# Altium footprint library Con RF Coaxial.PcbLib: 11 footprints
Each footprint in its own frame and in the unit in brackets; x right, y up, seen from the top. Pads: shape width x height; smd on the part's side, far side on the other; paste and mask are expansions set on the pad; w line width, h text height; cw(c..) or ccw(c..) is an arc to the next point about the centre after c.
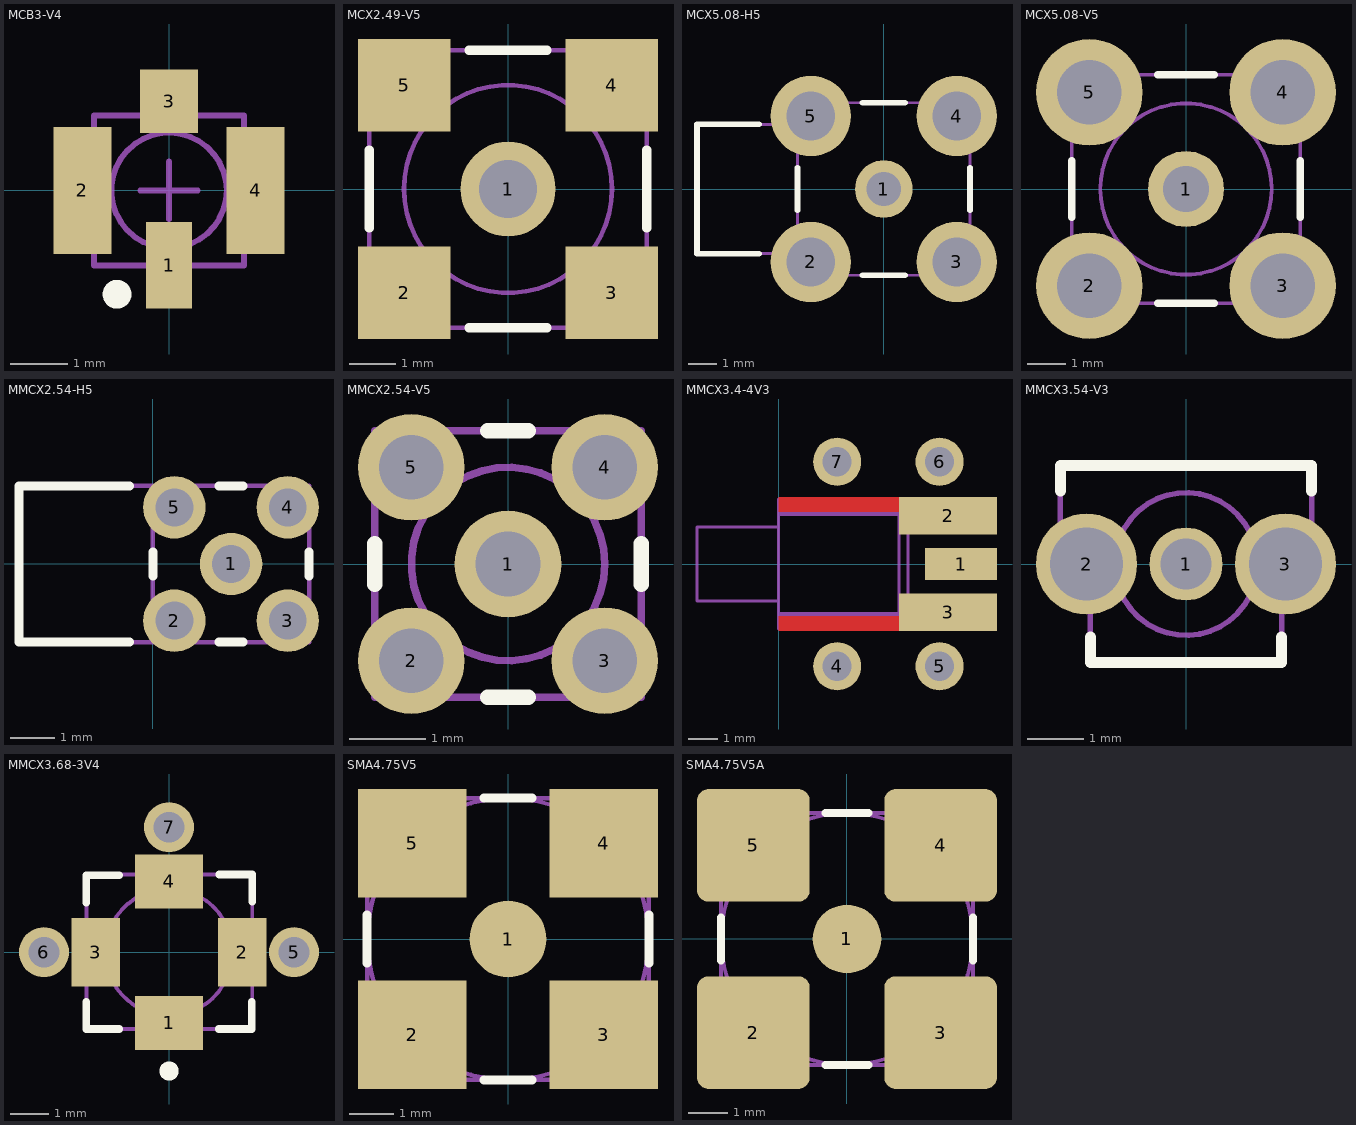
[diagram p0: the footprints below, top view; thin cyan lines are the x and y axes]

## MCB3-V4 [mm] "Connector; RF Coaxial, MCB SM; 4 Position; Vertical, Body 3.1x3.0mm (LxW)"
height 1.3
pads (4):
  rect 0.8x1.5 smd: 1(0,-1.3)
  rect 1x2.2 smd: 2(-1.5,0) 4(1.5,0)
  rect 1x1.1 smd: 3(0,1.55)
Top Overlay:
  circle w0.25: c-0.9,-1.8 r0.125
Mechanical 13:
  circle w0.1: c0,0 r1
  lines w0.1: -1.3,-1.3 1.3,-1.3 1.3,1.3 -1.3,1.3 -1.3,-1.3
Mechanical 15:
  lines w0.1: -0.5,0 0.5,0 ; 0,-0.5 0,0.5
3D body: height 1.3, standoff 0.35, extent -1.008,-1.008 1.008,1.008
3D body: height 0.35, standoff 0, extent -1.299,-1.299 1.299,1.299

## MCX2.49-V5 [mm] "Connector; RF Coaxial, MCX, SM; 5 Position; Vertical"
height 6.35
pads (5):
  round 2.05 hole 1.25: 1(0,0)
  rect 2x2 smd: 2(-2.245,-2.245) 3(2.245,-2.245) 4(2.245,2.245) 5(-2.245,2.245)
Top Overlay:
  lines w0.2: -3,-0.845 -3,0.845 ; -0.845,-3 0.845,-3 ; -0.845,3 0.845,3 ; 3,-0.845 3,0.845
Mechanical 13:
  circle w0.1: c0,0 r2.25
  lines w0.1: -3,-3 3,-3 3,3 -3,3 -3,-3
3D body: height 2.3, standoff 0, extent -2.999,-2.999 2.999,2.999
3D body: height 6.35, standoff 2.3, extent -2.26,-2.26 2.26,2.26

## MCX5.08-H5 [mm] "Connector; RF Coaxial, MCX, Thru-Hole; 5 Position; Right Angle"
height 5.99
pads (5):
  round 2 hole 1.2: 1(0,0)
  round 2.8 hole 1.7: 2(-2.54,-2.54) 3(2.54,-2.54) 4(2.54,2.54) 5(-2.54,2.54)
Top Overlay:
  lines w0.2: -4.34,-2.25 -6.5,-2.25 -6.5,2.25 -4.34,2.25 ; -3,-0.74 -3,0.74 ; -0.74,-3 0.74,-3 ; -0.74,3 0.74,3 ; 3,-0.74 3,0.74
Mechanical 13:
  lines w0.1: -3,-2.25 -6.5,-2.25 -6.5,2.25 -3,2.25 ; -3,-3 -3,3 3,3 3,-3 -3,-3
3D body: height 5.99, standoff 0, extent -2.999,-2.999 2.999,2.999
3D body: height 5.25, standoff 0.76, extent -6.499,-2.249 -2.999,2.242

## MCX5.08-V5 [mm] "Connector; RF Coaxial, MCX, Thru-Hole; 5 Position; Vertical"
height 5.75
pads (5):
  round 2 hole 1.2: 1(0,0)
  round 2.8 hole 1.7: 2(-2.54,-2.54) 3(2.54,-2.54) 4(2.54,2.54) 5(-2.54,2.54)
Top Overlay:
  lines w0.2: -3,-0.74 -3,0.74 ; -0.74,-3 0.74,-3 ; -0.74,3 0.74,3 ; 3,-0.74 3,0.74
Mechanical 13:
  circle w0.1: c0,0 r2.25
  lines w0.1: -3,-3 3,-3 3,3 -3,3 -3,-3
3D body: height 5.75, standoff 1.6, extent -2.26,-2.26 2.26,2.26
3D body: height 1.6, standoff 0, extent -3,-3 3,3

## MMCX2.54-H5 [mm] "Connector; RF Coaxial, MMCX, Thru-Hole; 5 Position; Right Angle"
height 3.8
pads (5):
  round 1.4 hole 0.85: 1(1.75,0) 2(0.48,-1.27) 3(3.02,-1.27) 4(3.02,1.27) 5(0.48,1.27)
Top Overlay:
  lines w0.2: -0.52,-1.75 -3,-1.75 -3,1.75 -0.52,1.75 ; 0,-0.27 0,0.27 ; 1.48,-1.75 2.02,-1.75 ; 1.48,1.75 2.02,1.75 ; 3.5,-0.27 3.5,0.27
Mechanical 13:
  lines w0.1: 0,-1.75 0,1.75 ; -3,-1.75 -3,1.75 3.5,1.75 3.5,-1.75 -3,-1.75
3D body: height 3.81, standoff 0.32, extent -3,-1.747 0,1.747
3D body: height 3.8, standoff 0, extent 0,-1.749 3.499,1.749

## MMCX2.54-V5 [mm] "Connector; RF Coaxial, MMCX, Thru-Hole; 5 Position; Vertical"
height 4.45
pads (5):
  round 1.4 hole 0.85: 1(0,0) 2(-1.27,-1.27) 3(1.27,-1.27) 4(1.27,1.27) 5(-1.27,1.27)
Top Overlay:
  lines w0.2: -1.75,-0.27 -1.75,0.27 ; -0.27,-1.75 0.27,-1.75 ; -0.27,1.75 0.27,1.75 ; 1.75,-0.27 1.75,0.27
Mechanical 13:
  circle w0.1: c0,0 r1.27
  lines w0.1: -1.75,-1.75 1.75,-1.75 1.75,1.75 -1.75,1.75 -1.75,-1.75
3D body: height 4.45, standoff 1.65, extent -1.28,-1.28 1.28,1.28
3D body: height 1.65, standoff 0, extent -1.75,-1.75 1.75,1.75

## MMCX3.4-4V3 [mm] "Connector; RF Coaxial, MMCX, Thru-Hole; 3 Position; Edgecard"
height 7.24
pads (7):
  rect 2.465x1.09 smd: 1(6.258,0)
  rect 3.355x1.295 smd: 2(5.813,1.653) 3(5.813,-1.653)
  round 1.65 hole 1: 4(2.01,-3.505) 5(5.52,-3.505) 6(5.52,3.505) 7(2.01,3.505)
Top Layer:
  rectangle: 0,1.78 7.49,2.3
  rectangle: 0,-2.3 7.49,-1.78
Mechanical 1:
  lines w0.1: 0,-1.78 4.135,-1.78 4.135,1.78 0,1.78 0,-1.78
  text "PCB Edge" at 0.115,-0.794 h0.1
  text "Assign" at 0.5,0.79 h0.5
  text "Keepout" at 0.5,0.136 h0.5
  text "Area to" at 0.5,-0.515 h0.5
  text "Cut-out" at 0.5,-1.209 h0.5
Mechanical 13:
  lines w0.1: 0,-1.7 4.445,-1.7 ; 0,-1.27 -2.794,-1.27 -2.794,1.27 0,1.27 ; 0,1.7 4.445,1.7 ; 0,-2.235 0,2.235 4.445,2.235 4.445,-2.235 0,-2.235
3D body: height 1, standoff -1, extent 0.001,-1.699 4.444,1.699
3D body: height 2.11, standoff 0, extent 0.001,-2.234 4.444,2.234
3D body: height 1.63, standoff -0.9, extent -2.793,-1.269 0.001,1.265

## MMCX3.54-V3 [mm] "Connector; RF Coaxial, MMCX, Thru-Hole; 3 Position; Vertical"
height 7.24
pads (3):
  round 1.3 hole 0.9: 1(0,0)
  round 1.8 hole 1.3: 2(-1.77,0) 3(1.77,0)
Top Overlay:
  lines w0.2: -2.235,1.3 -2.235,1.753 2.235,1.753 2.235,1.3 ; -1.702,-1.3 -1.702,-1.753 1.702,-1.753 1.702,-1.3
Mechanical 13:
  circle w0.1: c0,0 r1.27
  lines w0.1: -2.235,0 -2.235,1.753 2.235,1.753 2.235,0 1.702,0 1.702,-1.753 -1.702,-1.753 -1.702,0 -2.235,0
3D body: height 4.45, standoff 0, extent -2.234,-1.752 2.234,1.752
3D body: height 7.24, standoff 4.45, extent -1.28,-1.28 1.28,1.28

## MMCX3.68-3V4 [mm] "Connector; RF Coaxial, MMCX, SM; 4 Position; Vertical"
height 3.6
pads (7):
  rect 1.78x1.4 smd: 1(0,-1.841) 4(0,1.841)
  rect 1.27x1.78 smd: 2(1.905,0) 3(-1.905,0)
  round 1.3 hole 0.8: 5(3.251,0) 6(-3.251,0) 7(0,3.251)
Top Overlay:
  circle w0.25: c0,-3.092 r0.125
  lines w0.2: -2.15,-1.29 -2.15,-2 -1.29,-2 ; -2.15,1.29 -2.15,2 -1.29,2 ; 1.29,-2 2.15,-2 2.15,-1.29 ; 1.306,2.021 2.166,2.021 2.166,1.311
Mechanical 13:
  circle w0.1: c0,0 r1.651
  lines w0.1: -2.15,-2 -2.15,2.021 2.166,2.021 2.166,-2 -2.15,-2
3D body: height 2.46, standoff 0, extent -2.149,-1.999 2.165,2.02
3D body: height 3.6, standoff 2.46, extent -1.658,-1.658 1.658,1.658

## SMA4.75V5 [mm] "Connector; RF Coaxial, SMA, SM; 5 Position; Vertical"
height 10.3
pads (5):
  round 1.73 smd: 1(0,0)
  rect 2.44x2.44 smd: 2(-2.16,-2.16) 3(2.16,-2.16) 4(2.16,2.16) 5(-2.16,2.16)
Top Overlay:
  lines w0.2: -3.175,-0.54 -3.175,0.54 ; -0.54,-3.175 0.54,-3.175 ; -0.54,3.175 0.54,3.175 ; 3.175,-0.54 3.175,0.54
Mechanical 13:
  circle w0.1: c0,0 r3.175
  lines w0.1: -3.175,-3.175 3.175,-3.175 3.175,3.175 -3.175,3.175 -3.175,-3.175
3D body: height 10.3, standoff 2.64, extent -3.184,-3.184 3.184,3.184
3D body: height 2.64, standoff 0, extent -3.174,-3.174 3.174,3.174

## SMA4.75V5A [mm] "Connector; RF Coaxial, SMA, SM; 5 Position; Vertical"
height 10.3
pads (5):
  round 1.73 smd: 1(0,0)
  rrect20% 2.84x2.84 smd: 2(-2.36,-2.36) 3(2.36,-2.36) 4(2.36,2.36) 5(-2.36,2.36)
Top Overlay:
  lines w0.2: -3.175,-0.54 -3.175,0.54 ; -0.54,-3.175 0.54,-3.175 ; -0.54,3.175 0.54,3.175 ; 3.175,-0.54 3.175,0.54
Mechanical 13:
  circle w0.1: c0,0 r3.175
  lines w0.1: -3.175,-3.175 -3.175,3.175 3.175,3.175 3.175,-3.175 -3.175,-3.175
3D body: height 2.64, standoff 0, extent -3.174,-3.174 3.174,3.174
3D body: height 10.3, standoff 2.64, extent -3.184,-3.184 3.184,3.184